# Altium footprint library PcbLib.PcbLib: 8 footprints
Each footprint in its own frame and in the unit in brackets; x right, y up, seen from the top. Pads: shape width x height; smd on the part's side, far side on the other; paste and mask are expansions set on the pad; w line width, h text height; cw(c..) or ccw(c..) is an arc to the next point about the centre after c.
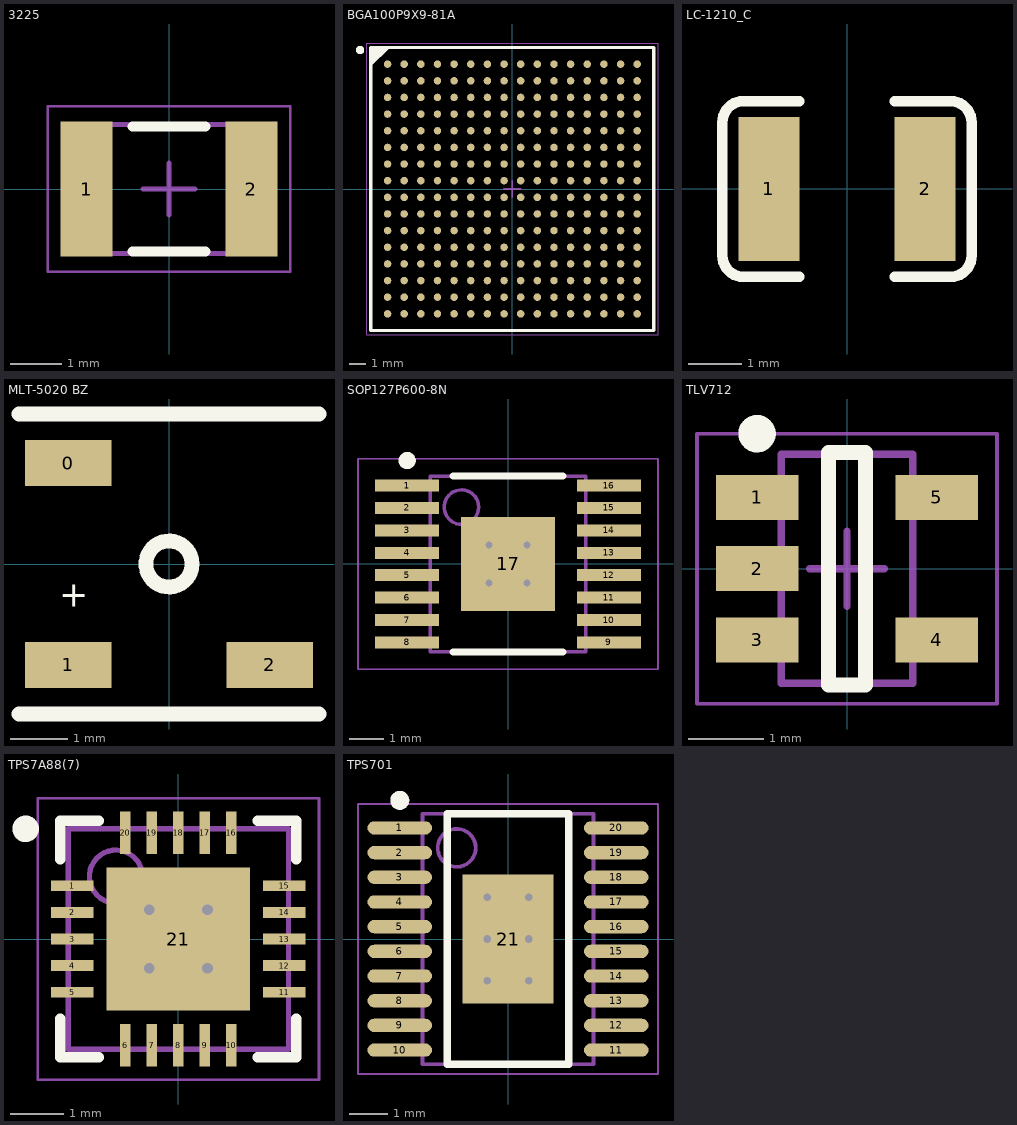
[diagram p0: the footprints below, top view; thin cyan lines are the x and y axes]

## 3225 [mm] "Chip Inductor, 2-Leads, Body 3.20x2.50mm, IPC Medium Density"
height 0.56
pads (2):
  rect 1.01x2.62 smd: 1(-1.595,0) 2(1.595,0)
Top Overlay:
  lines w0.2: -0.7,-1.21 0.7,-1.21 ; -0.7,1.21 0.7,1.21
Mechanical 13:
  lines w0.1: -1.6,-1.25 1.6,-1.25 1.6,1.25 -1.6,1.25 -1.6,-1.25
Mechanical 15:
  lines w0.05: -2.35,-1.6 2.35,-1.6 2.35,1.6 -2.35,1.6 -2.35,-1.6
  lines w0.1: -0.5,0 0.5,0 ; 0,-0.5 0,0.5
3D body: height 0.56, standoff 0, extent 1.1,-1.25 1.6,1.25
3D body: height 0.56, standoff 0, extent -1.6,-1.25 -1.1,1.25
3D body: height 0.56, standoff 0, extent -1.1,-1.25 1.1,1.25

## BGA100P9X9-81A [mm] "XC7A35T-1FTG256"
height 1.55
pads (256):
  round 0.45 smd: A1(-7.5,7.5) A2(-6.5,7.5) A3(-5.5,7.5) A4(-4.5,7.5) A5(-3.5,7.5) A6(-2.5,7.5) A7(-1.5,7.5) A8(-0.5,7.5) A9(0.5,7.5) A10(1.5,7.5) A11(2.5,7.5) A12(3.5,7.5) A13(4.5,7.5) A14(5.5,7.5) A15(6.5,7.5) A16(7.5,7.5) B1(-7.5,6.5) B2(-6.5,6.5) B3(-5.5,6.5) B4(-4.5,6.5) B5(-3.5,6.5) B6(-2.5,6.5) B7(-1.5,6.5) B8(-0.5,6.5) B9(0.5,6.5) B10(1.5,6.5) B11(2.5,6.5) B12(3.5,6.5) B13(4.5,6.5) B14(5.5,6.5) B15(6.5,6.5) B16(7.5,6.5) C1(-7.5,5.5) C2(-6.5,5.5) C3(-5.5,5.5) C4(-4.5,5.5) C5(-3.5,5.5) C6(-2.5,5.5) C7(-1.5,5.5) C8(-0.5,5.5) C9(0.5,5.5) C10(1.5,5.5) C11(2.5,5.5) C12(3.5,5.5) C13(4.5,5.5) C14(5.5,5.5) C15(6.5,5.5) C16(7.5,5.5) D1(-7.5,4.5) D2(-6.5,4.5) D3(-5.5,4.5) D4(-4.5,4.5) D5(-3.5,4.5) D6(-2.5,4.5) D7(-1.5,4.5) D8(-0.5,4.5) D9(0.5,4.5) D10(1.5,4.5) D11(2.5,4.5) D12(3.5,4.5) D13(4.5,4.5) D14(5.5,4.5) D15(6.5,4.5) D16(7.5,4.5) E1(-7.5,3.5) E2(-6.5,3.5) E3(-5.5,3.5) E4(-4.5,3.5) E5(-3.5,3.5) E6(-2.5,3.5) E7(-1.5,3.5) E8(-0.5,3.5) E9(0.5,3.5) E10(1.5,3.5) E11(2.5,3.5) E12(3.5,3.5) E13(4.5,3.5) E14(5.5,3.5) E15(6.5,3.5) E16(7.5,3.5) F1(-7.5,2.5) F2(-6.5,2.5) F3(-5.5,2.5) F4(-4.5,2.5) F5(-3.5,2.5) F6(-2.5,2.5) F7(-1.5,2.5) F8(-0.5,2.5) F9(0.5,2.5) F10(1.5,2.5) F11(2.5,2.5) F12(3.5,2.5) F13(4.5,2.5) F14(5.5,2.5) F15(6.5,2.5) F16(7.5,2.5) G1(-7.5,1.5) G2(-6.5,1.5) G3(-5.5,1.5) G4(-4.5,1.5) G5(-3.5,1.5) G6(-2.5,1.5) G7(-1.5,1.5) G8(-0.5,1.5) G9(0.5,1.5) G10(1.5,1.5) G11(2.5,1.5) G12(3.5,1.5) G13(4.5,1.5) G14(5.5,1.5) G15(6.5,1.5) G16(7.5,1.5) H1(-7.5,0.5) H2(-6.5,0.5) H3(-5.5,0.5) H4(-4.5,0.5) H5(-3.5,0.5) H6(-2.5,0.5) H7(-1.5,0.5) H8(-0.5,0.5) H9(0.5,0.5) H10(1.5,0.5) H11(2.5,0.5) H12(3.5,0.5) H13(4.5,0.5) H14(5.5,0.5) H15(6.5,0.5) H16(7.5,0.5) J1(-7.5,-0.5) J2(-6.5,-0.5) J3(-5.5,-0.5) J4(-4.5,-0.5) J5(-3.5,-0.5) J6(-2.5,-0.5) J7(-1.5,-0.5) J8(-0.5,-0.5) J9(0.5,-0.5) J10(1.5,-0.5) J11(2.5,-0.5) J12(3.5,-0.5) J13(4.5,-0.5) J14(5.5,-0.5) J15(6.5,-0.5) J16(7.5,-0.5) K1(-7.5,-1.5) K2(-6.5,-1.5) K3(-5.5,-1.5) K4(-4.5,-1.5) K5(-3.5,-1.5) K6(-2.5,-1.5) K7(-1.5,-1.5) K8(-0.5,-1.5) K9(0.5,-1.5) K10(1.5,-1.5) K11(2.5,-1.5) K12(3.5,-1.5) K13(4.5,-1.5) K14(5.5,-1.5) K15(6.5,-1.5) K16(7.5,-1.5) L1(-7.5,-2.5) L2(-6.5,-2.5) L3(-5.5,-2.5) L4(-4.5,-2.5) L5(-3.5,-2.5) L6(-2.5,-2.5) L7(-1.5,-2.5) L8(-0.5,-2.5) L9(0.5,-2.5) L10(1.5,-2.5) L11(2.5,-2.5) L12(3.5,-2.5) L13(4.5,-2.5) L14(5.5,-2.5) L15(6.5,-2.5) L16(7.5,-2.5) M1(-7.5,-3.5) M2(-6.5,-3.5) M3(-5.5,-3.5) M4(-4.5,-3.5) M5(-3.5,-3.5) M6(-2.5,-3.5) M7(-1.5,-3.5) M8(-0.5,-3.5) M9(0.5,-3.5) M10(1.5,-3.5) M11(2.5,-3.5) M12(3.5,-3.5) M13(4.5,-3.5) M14(5.5,-3.5) M15(6.5,-3.5) M16(7.5,-3.5) N1(-7.5,-4.5) N2(-6.5,-4.5) N3(-5.5,-4.5) N4(-4.5,-4.5) N5(-3.5,-4.5) N6(-2.5,-4.5) N7(-1.5,-4.5) N8(-0.5,-4.5) N9(0.5,-4.5) N10(1.5,-4.5) N11(2.5,-4.5) N12(3.5,-4.5) N13(4.5,-4.5) N14(5.5,-4.5) N15(6.5,-4.5) N16(7.5,-4.5) P1(-7.5,-5.5) P2(-6.5,-5.5) P3(-5.5,-5.5) P4(-4.5,-5.5) P5(-3.5,-5.5) P6(-2.5,-5.5) P7(-1.5,-5.5) P8(-0.5,-5.5) P9(0.5,-5.5) P10(1.5,-5.5) P11(2.5,-5.5) P12(3.5,-5.5) P13(4.5,-5.5) P14(5.5,-5.5) P15(6.5,-5.5) P16(7.5,-5.5) R1(-7.5,-6.5) R2(-6.5,-6.5) R3(-5.5,-6.5) R4(-4.5,-6.5) R5(-3.5,-6.5) R6(-2.5,-6.5) R7(-1.5,-6.5) R8(-0.5,-6.5) R9(0.5,-6.5) R10(1.5,-6.5) R11(2.5,-6.5) R12(3.5,-6.5) R13(4.5,-6.5) R14(5.5,-6.5) R15(6.5,-6.5) R16(7.5,-6.5) T1(-7.5,-7.5) T2(-6.5,-7.5) T3(-5.5,-7.5) T4(-4.5,-7.5) T5(-3.5,-7.5) T6(-2.5,-7.5) T7(-1.5,-7.5) T8(-0.5,-7.5) T9(0.5,-7.5) T10(1.5,-7.5) T11(2.5,-7.5) T12(3.5,-7.5) T13(4.5,-7.5) T14(5.5,-7.5) T15(6.5,-7.5) T16(7.5,-7.5)
Top Overlay:
  circle w0.25: c-9.15,8.35 r0.125
  region: -7.5,8.5 -8.5,7.5 -8.5,8.5
  lines w0.2: -8.5,7.5 -7.5,8.5 ; -8.5,-8.5 -8.5,8.5 8.5,8.5 8.5,-8.5 -8.5,-8.5
Mechanical 13:
  lines w0.1: -8.5,-8.5 -8.5,8.5 8.5,8.5 8.5,-8.5 -8.5,-8.5
Mechanical 15:
  lines w0.05: -8.75,-8.75 -8.75,8.75 8.75,8.75 8.75,-8.75 -8.75,-8.75
  lines w0.1: -0.5,0 0.5,0 ; 0,-0.5 0,0.5
3D body: height 1.55, standoff 0.3, extent -8.5,-8.5 8.5,8.5

## LC-1210_C [mm]
pads (2):
  rect 1.16x2.72 smd: 1(-1.475,0) 2(1.475,0)
Top Overlay:
  lines w0.2: -0.9,-1.66 -1.955,-1.66 cw(c-1.955,-1.26) -2.355,-1.26 -2.355,1.26 cw(c-1.955,1.26) -1.955,1.66 -0.9,1.66 ; 0.9,-1.66 1.955,-1.66 ccw(c1.955,-1.26) 2.355,-1.26 2.355,1.26 ccw(c1.955,1.26) 1.955,1.66 0.9,1.66
3D body: height 1.3, standoff 0, extent -1.6,-1.25 1.6,1.25

## MLT-5020 BZ [mm]
height 2
pads (3):
  rect 1.5x0.8 smd: 0(-1.75,1.75) 1(-1.75,-1.75) 2(1.75,-1.75)
Top Overlay:
  circle w0.254: c0,0 r0.4
  lines w0.254: -2.6,-2.6 2.6,-2.6 ; -2.6,2.6 2.6,2.6
  text "+" at -1.905,-0.889 h0.76

## SOP127P600-8N [mm]
height 1.1
pads (17):
  rect 1.85x0.35 smd: 1(-2.925,2.275) 2(-2.925,1.625) 3(-2.925,0.975) 4(-2.925,0.325) 5(-2.925,-0.325) 6(-2.925,-0.975) 7(-2.925,-1.625) 8(-2.925,-2.275) 9(2.925,-2.275) 10(2.925,-1.625) 11(2.925,-0.975) 12(2.925,-0.325) 13(2.925,0.325) 14(2.925,0.975) 15(2.925,1.625) 16(2.925,2.275)
  rect 2.74x2.74 smd: 17(0,0)
via -0.55,0.55 diameter 0.5 hole 0.2
via 0.55,0.55 diameter 0.5 hole 0.2
via -0.55,-0.55 diameter 0.5 hole 0.2
via 0.55,-0.55 diameter 0.5 hole 0.2
Top Overlay:
  circle w0.25: c-2.925,3 r0.125
  lines w0.2: -1.6,-2.55 1.6,-2.55 ; -1.6,2.55 1.6,2.55
Mechanical 13:
  circle w0.1: c-1.35,1.65 r0.5
  lines w0.1: -2.25,-2.55 -2.25,2.55 2.25,2.55 2.25,-2.55 -2.25,-2.55
Mechanical 15:
  lines w0.05: -4.35,-3.05 -4.35,3.05 4.35,3.05 4.35,-3.05 -4.35,-3.05
  lines w0.1: -0.5,0 0.5,0 ; 0,-0.5 0,0.5
3D body: height 1.1, standoff 0.05, extent -2.25,-2.55 2.25,2.55

## TLV712 [mm] "SOT23, 5-Leads, Body 2.90x2.80mm, Pitch 0.95mm, IPC Medium Density"
height 1.45
pads (5):
  rect 1.1x0.6 smd: 1(-1.2,0.95) 2(-1.2,0) 3(-1.2,-0.95) 4(1.2,-0.95) 5(1.2,0.95)
Top Overlay:
  circle w0.25: c-1.2,1.8 r0.125
  lines w0.2: -0.25,-1.55 0.25,-1.55 0.25,1.55 -0.25,1.55 -0.25,-1.55
Mechanical 13:
  lines w0.1: -0.875,-1.525 -0.875,1.525 0.875,1.525 0.875,-1.525 -0.875,-1.525
Mechanical 15:
  lines w0.05: -2,-1.8 -2,1.8 2,1.8 2,-1.8 -2,-1.8
  lines w0.1: -0.5,0 0.5,0 ; 0,-0.5 0,0.5
3D body: height 1.45, standoff 0.15, extent -0.875,-1.525 0.875,1.525

## TPS7A88(7) [mm] "QFN, 20-Leads, Body 4.00x4.00mm, Pitch 0.50mm, Thermal Pad 2.70x2.70mm, IPC Medium Density"
height 0.8
pads (21):
  rect 0.8x0.2 smd: 1(-2,1) 2(-2,0.5) 3(-2,0) 4(-2,-0.5) 5(-2,-1) 11(2,-1) 12(2,-0.5) 13(2,0) 14(2,0.5) 15(2,1)
  rect 0.2x0.8 smd: 6(-1,-2) 7(-0.5,-2) 8(0,-2) 9(0.5,-2) 10(1,-2) 16(1,2) 17(0.5,2) 18(0,2) 19(-0.5,2) 20(-1,2)
  rect 2.7x2.7 smd: 21(0,0)
via 0.55,-0.55 diameter 0.5 hole 0.2
via -0.55,-0.55 diameter 0.5 hole 0.2
via 0.55,0.55 diameter 0.5 hole 0.2
via -0.55,0.55 diameter 0.5 hole 0.2
Top Overlay:
  circle w0.25: c-2.875,2.075 r0.125
  lines w0.2: -2.225,-1.5 -2.225,-2.225 -1.5,-2.225 ; -2.225,1.5 -2.225,2.225 -1.5,2.225 ; 1.5,-2.225 2.225,-2.225 2.225,-1.5 ; 1.5,2.225 2.225,2.225 2.225,1.5
Mechanical 13:
  circle w0.1: c-1.175,1.175 r0.5
  lines w0.1: -2.075,-2.075 2.075,-2.075 2.075,2.075 -2.075,2.075 -2.075,-2.075
Mechanical 15:
  lines w0.05: -2.65,-2.65 2.65,-2.65 2.65,2.65 -2.65,2.65 -2.65,-2.65
  lines w0.1: -0.5,0 0.5,0 ; 0,-0.5 0,0.5
3D body: height 0.8, standoff 0.05, extent -2.075,-2.075 2.075,2.075

## TPS701 [mm] "TSOP, 20-Leads, Body 6.50x4.40mm, Pitch 0.65mm, Thermal Pad 3.40.2x2.40.2mm, IPC Medium Density"
height 1.2
pads (21):
  oval 1.7x0.35 smd: 1(-2.85,2.925) 2(-2.85,2.275) 3(-2.85,1.625) 4(-2.85,0.975) 5(-2.85,0.325) 6(-2.85,-0.325) 7(-2.85,-0.975) 8(-2.85,-1.625) 9(-2.85,-2.275) 10(-2.85,-2.925) 11(2.85,-2.925) 12(2.85,-2.275) 13(2.85,-1.625) 14(2.85,-0.975) 15(2.85,-0.325) 16(2.85,0.325) 17(2.85,0.975) 18(2.85,1.625) 19(2.85,2.275) 20(2.85,2.925)
  rect 2.4x3.4 smd: 21(0,0)
via -0.55,1.1 diameter 0.5 hole 0.2
via 0.55,1.1 diameter 0.5 hole 0.2
via -0.55,0 diameter 0.5 hole 0.2
via 0.55,0 diameter 0.5 hole 0.2
via -0.55,-1.1 diameter 0.5 hole 0.2
via 0.55,-1.1 diameter 0.5 hole 0.2
Top Overlay:
  circle w0.25: c-2.85,3.65 r0.125
  lines w0.2: -1.6,-3.3 -1.6,3.3 1.6,3.3 1.6,-3.3 -1.6,-3.3
Mechanical 13:
  circle w0.1: c-1.35,2.4 r0.5
  lines w0.1: -2.25,-3.3 -2.25,3.3 2.25,3.3 2.25,-3.3 -2.25,-3.3
Mechanical 15:
  lines w0.05: -3.95,-3.55 -3.95,3.55 3.95,3.55 3.95,-3.55 -3.95,-3.55
  lines w0.1: -0.5,0 0.5,0 ; 0,-0.5 0,0.5
3D body: height 1.2, standoff 0.05, extent -2.25,-3.3 2.25,3.3